# Altium footprint library SN74AVCH2T45 2-Bit.PcbLib: 1 footprints
Each footprint in its own frame and in the unit in brackets; x right, y up, seen from the top. Pads: shape width x height; smd on the part's side, far side on the other; paste and mask are expansions set on the pad; w line width, h text height; cw(c..) or ccw(c..) is an arc to the next point about the centre after c.
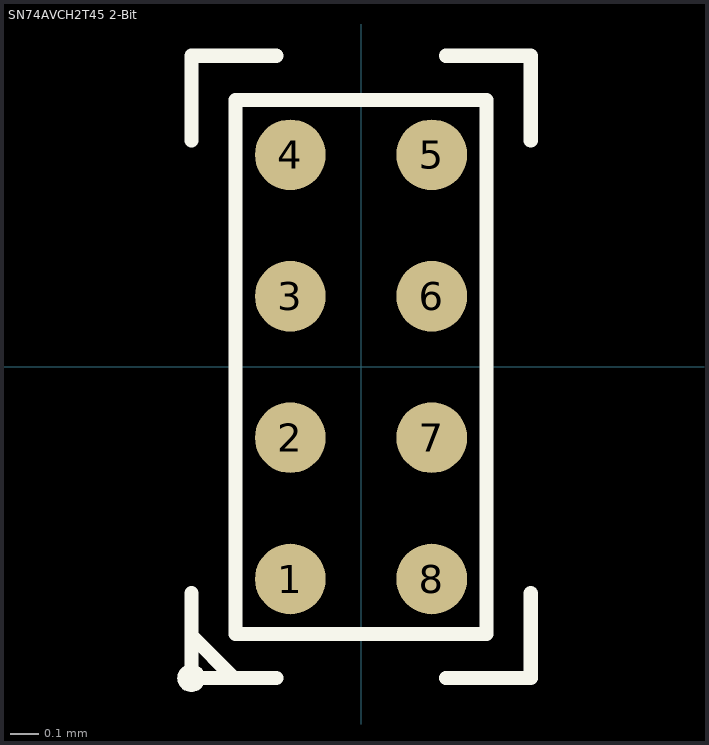
[diagram p0: the footprint, top view; thin cyan lines are the x and y axes]

## SN74AVCH2T45 2-Bit [mm]
pads (9):
  round 0.25 smd mask+0.03: 1(-0.25,-0.75) 2(-0.25,-0.25) 3(-0.25,0.25) 4(-0.25,0.75) 5(0.25,0.75) 6(0.25,0.25) 7(0.25,-0.25) 8(0.25,-0.75)
  round 0.1 on Top Overlay mask+0.012: ""(-0.6,-1.1)
Top Overlay:
  lines w0.05: -0.6,-0.95 -0.45,-1.1 ; -0.6,-0.8 -0.6,-1.1 -0.3,-1.1 ; -0.6,0.8 -0.6,1.1 -0.3,1.1 ; 0.3,-1.1 0.6,-1.1 0.6,-0.8 ; 0.3,1.1 0.6,1.1 0.6,0.8 ; -0.444,-0.944 0.444,-0.944 0.444,0.944 -0.444,0.944 -0.444,-0.944